# EAGLE library part TPS2490DGSR (library TPS2490DGSR)
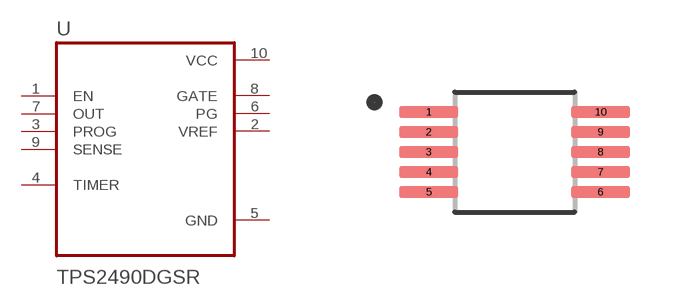
[diagram p0: symbol with the pads of SOP50P490X110-10N; footprint SOP50P490X110-10N]

Designator prefix U

## TPS2490DGSR (Description: 9-V to 80-V hot swap controller with power limiting and latch off 10-VSSOP -40 to 85; Digi-Key_Part_Number: 296-26924-1-ND; MF: Texas Instruments; MP: TPS2490DGSR; Package: VSSOP-10 Texas Instruments; Purchase-URL: https://pricing.snapeda.com/search/part/TPS2490DGSR/?ref=eda)  [SOP50P490X110-10N]
1  EN  in
2  VREF  out
3  PROG  in
4  TIMER
5  GND  pwr
6  PG  out
7  OUT  in
8  GATE  out
9  SENSE  in
10  VCC  pwr

## Footprint SOP50P490X110-10N (pad centres in mm)
smd 1.47 x 0.28: 1 -2.15,1; 2 -2.15,0.5; 3 -2.15,0; 4 -2.15,-0.5; 5 -2.15,-1; 6 2.15,-1; 7 2.15,-0.5; 8 2.15,0; 9 2.15,0.5; 10 2.15,1